# Altium schematic symbol library PS2801C-1-F3-A.Schlib: 1 symbol
Pins are listed as number, name and electrical type; pins without a type are passive.

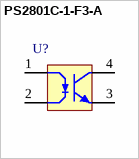
[diagram p0: symbol PS2801C-1-F3-A]

## PS2801C-1-F3-A
designator U?
Photocoupler
pins: 1, 2, 3, 4